# Altium schematic symbol library D1213A-01SO.Schlib: 1 symbol
Pins are listed as number, name and electrical type; pins without a type are passive.

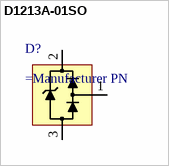
[diagram p0: symbol D1213A-01SO]

## D1213A-01SO
designator D?
TVS Diode Array, Diodes Inc. D1213A-01SO
pins: 1 LINE, 2 VCC, 3 GND